# Altium footprint library MC33FS8530A1ES.PcbLib: 1 footprints
Each footprint in its own frame and in the unit in brackets; x right, y up, seen from the top. Pads: shape width x height; smd on the part's side, far side on the other; paste and mask are expansions set on the pad; w line width, h text height; cw(c..) or ccw(c..) is an arc to the next point about the centre after c.
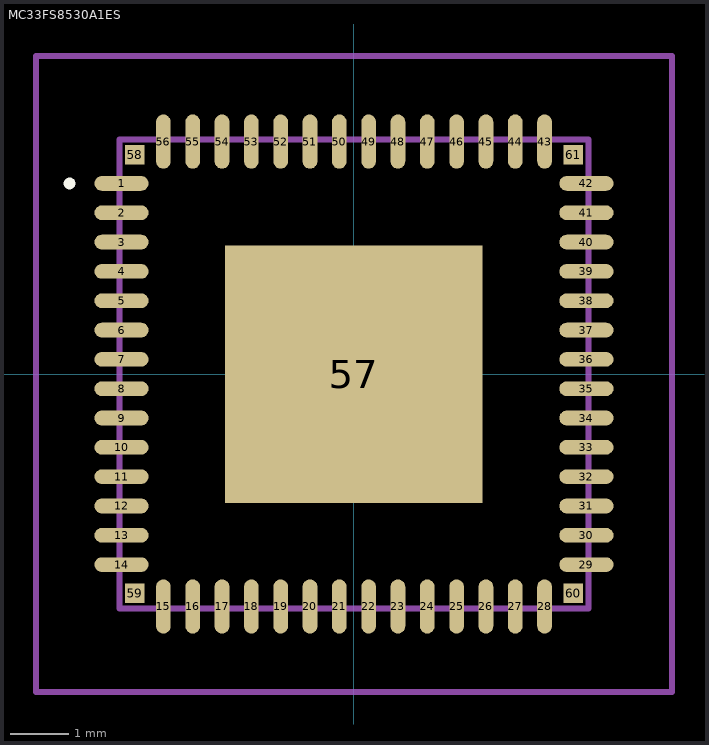
[diagram p0: the footprint, top view; thin cyan lines are the x and y axes]

## MC33FS8530A1ES [mm]
pads (61):
  oval 0.925x0.25 smd: 1(-3.963,3.25) 2(-3.963,2.75) 3(-3.963,2.25) 4(-3.963,1.75) 5(-3.963,1.25) 6(-3.963,0.75) 7(-3.963,0.25) 8(-3.963,-0.25) 9(-3.963,-0.75) 10(-3.963,-1.25) 11(-3.963,-1.75) 12(-3.963,-2.25) 13(-3.963,-2.75) 14(-3.963,-3.25) 29(3.963,-3.25) 30(3.963,-2.75) 31(3.963,-2.25) 32(3.963,-1.75) 33(3.963,-1.25) 34(3.963,-0.75) 35(3.963,-0.25) 36(3.963,0.25) 37(3.963,0.75) 38(3.963,1.25) 39(3.963,1.75) 40(3.963,2.25) 41(3.963,2.75) 42(3.963,3.25)
  oval 0.25x0.925 smd: 15(-3.25,-3.963) 16(-2.75,-3.963) 17(-2.25,-3.963) 18(-1.75,-3.963) 19(-1.25,-3.963) 20(-0.75,-3.963) 21(-0.25,-3.963) 22(0.25,-3.963) 23(0.75,-3.963) 24(1.25,-3.963) 25(1.75,-3.963) 26(2.25,-3.963) 27(2.75,-3.963) 28(3.25,-3.963) 43(3.25,3.963) 44(2.75,3.963) 45(2.25,3.963) 46(1.75,3.963) 47(1.25,3.963) 48(0.75,3.963) 49(0.25,3.963) 50(-0.25,3.963) 51(-0.75,3.963) 52(-1.25,3.963) 53(-1.75,3.963) 54(-2.25,3.963) 55(-2.75,3.963) 56(-3.25,3.963)
  rect 4.39x4.39 smd: 57(0,0)
  rect 0.33x0.33 smd: 58(-3.738,3.738) 59(-3.738,-3.738) 60(3.738,-3.738) 61(3.738,3.738)
Top Overlay:
  lines w0.1: -4.9,3.25 cw(c-4.85,3.25) -4.8,3.25 ; -4.9,3.25 -4.9,3.25 ; -4.9,3.25 ccw(c-4.85,3.25) -4.8,3.25 ; -4.8,3.25 -4.8,3.25
Mechanical 15:
  lines w0.1: -4,-4 4,-4 4,4 -4,4 -4,-4
Mechanical 20:
  lines w0.1: -5.425,-5.425 5.426,-5.425 5.426,5.426 -5.425,5.426 -5.425,-5.425